# Altium footprint library LTC7818.PcbLib: 9 footprints
Each footprint in its own frame and in the unit in brackets; x right, y up, seen from the top. Pads: shape width x height; smd on the part's side, far side on the other; paste and mask are expansions set on the pad; w line width, h text height; cw(c..) or ccw(c..) is an arc to the next point about the centre after c.
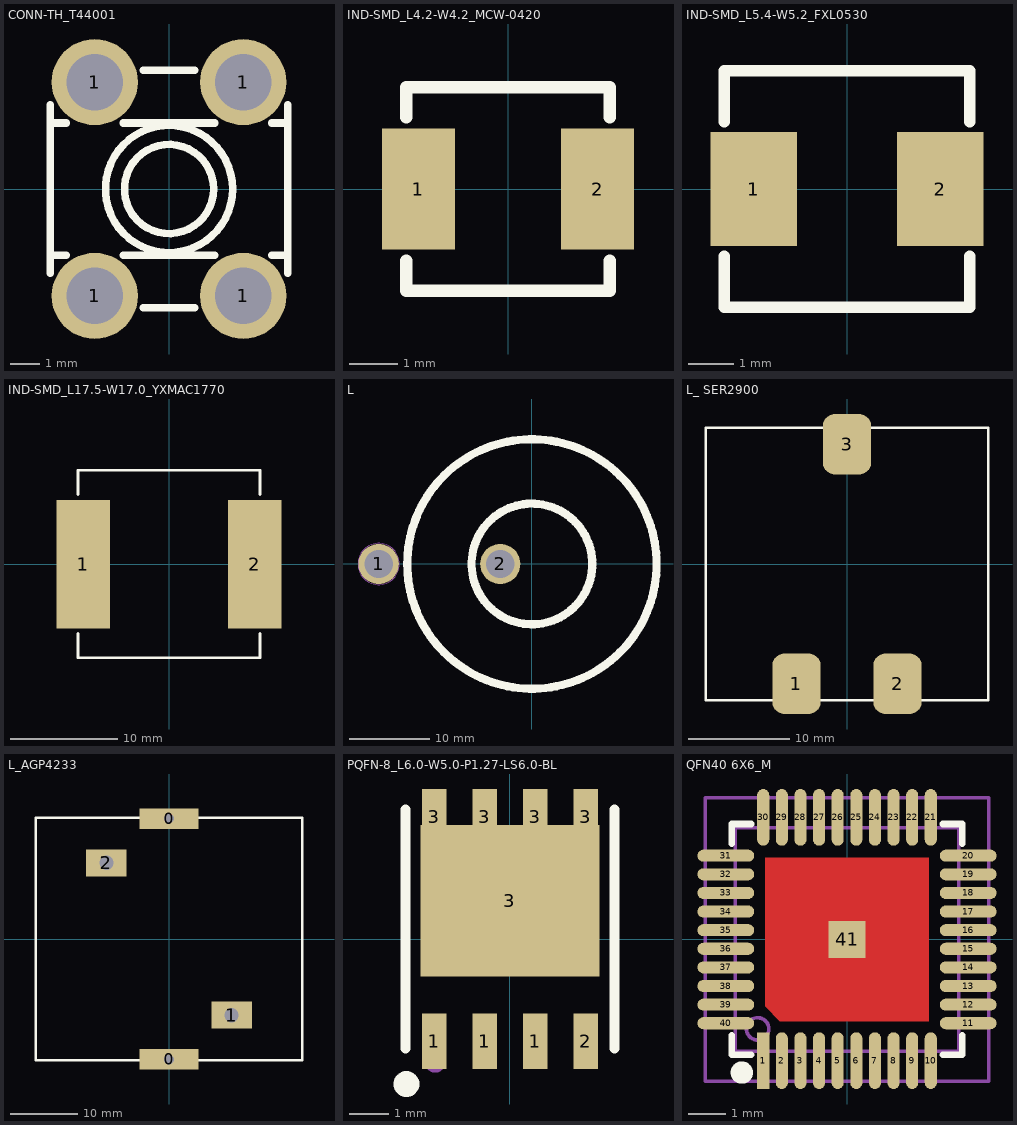
[diagram p0: the footprints below, top view; thin cyan lines are the x and y axes]

## CONN-TH_T44001 [mm]
pads (4):
  round 2.9 hole 1.9: 1(-2.5,-3.6) 1(-2.5,3.6) 1(2.5,-3.6) 1(2.5,3.6)
Top Overlay:
  circle w0.254: c0,0 r2.14
  circle w0.254: c0,0 r1.5
  lines w0.254: -4,-2.844 -4,2.844 ; -4,-2.223 -3.463,-2.223 ; -4,2.222 -3.461,2.222 ; -1.539,2.222 1.539,2.222 ; -1.537,-2.223 1.537,-2.223 ; -0.867,-4 0.867,-4 ; -0.867,4 0.867,4 ; 3.461,2.222 4,2.222 ; 3.463,-2.223 4,-2.223 ; 4,-2.844 4,2.844

## IND-SMD_L4.2-W4.2_MCW-0420 [mm]
pads (2):
  rect 1.5x2.5 smd: 1(-1.85,0) 2(1.85,0)
Top Overlay:
  lines w0.254: -2.1,-1.481 -2.1,-2.1 2.1,-2.1 2.1,-1.481 ; -2.1,1.481 -2.1,2.1 2.1,2.1 2.1,1.481
3D body "User Library-0420CDMCB_DS.STEP": height 1.91, standoff -0.01, extent -2.26,-2.08 2.24,2.02

## IND-SMD_L5.4-W5.2_FXL0530 [mm]
pads (2):
  rect 1.9x2.5 smd: 1(-2.05,0) 2(2.05,0)
Top Overlay:
  lines w0.254: -2.7,-1.481 -2.7,-2.6 2.7,-2.6 2.7,-1.481 ; -2.7,1.481 -2.7,2.6 2.7,2.6 2.7,1.481
3D body "User Library-ASPI-0530HI.STEP": height 2.95, standoff -0.05, extent -2.8,-2.566 2.8,2.634

## IND-SMD_L17.5-W17.0_YXMAC1770 [mm]
pads (2):
  rect 5x12 smd: 1(-8,-0.025) 2(8,-0.025)
Top Overlay:
  lines w0.254: -8.5,-6.485 -8.5,-8.754 8.5,-8.754 8.5,-6.485 ; -8.5,6.485 -8.5,8.754 8.5,8.754 8.5,6.485
3D body "User Library-CAPM172172X70N.STEP": height 7, standoff 0, extent -8.87,-8.575 8.87,8.575

## L [mm]
pads (2):
  round 5 hole 3.5: 1(-19.048,0) 2(-3.937,0)
Top Overlay:
  circle w1.016: c0,0 r7.5
  circle w1.016: c0,0 r15.5
Mechanical 13:
  circle w0.013: c-0.064,-0.064 r15.502
  circle w0.013: c-0.001,-0.002 r15.669
  circle w0.013: c-19.048,0 r2.57

## L_ SER2900 [mm]
pads (3):
  rrect50% 4.8x6 smd: 1(-5,-11.85) 2(5,-11.85) 3(0,11.85)
Top Overlay:
  lines w0.254: -14,-13.5 14,-13.5 14,13.5 -14,13.5 -14,-13.5
3D body "Coilcraft-SER2918H.step": height 17.82, standoff 0.04, extent -13.951,-13.488 13.951,13.553

## L_AGP4233 [mm] "扁平电感"
pads (4):
  rect 8.75x3 hole 1.5 square: 0(0,-17.78) 0(0,17.78)
  rect 6x4 hole 2.1 square: 1(9.25,-11.25) 2(-9.25,11.25)
Top Overlay:
  lines w0.381: -19.65,-17.9 19.65,-17.9 19.65,17.9 -19.65,17.9 -19.65,-17.9
3D body "Coilcraft-AGP4233_6_8-150uH.step": height 28, standoff -5.3, extent -20.086,-18.4 20.214,18.4

## PQFN-8_L6.0-W5.0-P1.27-LS6.0-BL [mil]
pads (9):
  rect 24x55 smd: 1(-75,-101.03) 1(-25,-101.03) 1(25,-101.03) 2(75,-101.03) 3(-75,120.97) 3(-25,120.97) 3(25,120.97) 3(75,120.97)
  rect 177.16x150 smd: 3(0,37.98)
Top Overlay:
  lines w10: -103.5,-108.12 -103.5,128.07 ; 103.5,-108.12 103.5,128.07
  lines w15.7: -97.5,-143.63 cw(c-102.4,-143.57) -97.5,-143.52
Top Paste:
  region: -88.98,-37.27 -88.98,100.53 88.19,100.53 88.19,-37.27
  region: -87.01,-128.37 -87.01,-73.65 -62.99,-73.65 -62.99,-128.37
  region: -37.01,-128.37 -37.01,-73.65 -12.99,-73.65 -12.99,-128.37
  region: 12.99,-128.37 12.99,-73.65 37.01,-73.65 37.01,-128.37
  region: 62.99,-128.37 62.99,-73.65 87.01,-73.65 87.01,-128.37
  region: -87.01,120.92 -87.01,148.47 -62.99,148.47 -62.99,120.92
  region: -37.01,120.92 -37.01,148.47 -12.99,148.47 -12.99,120.92
  region: 12.99,120.92 12.99,148.47 37.01,148.47 37.01,120.92
  region: 62.99,120.92 62.99,148.47 87.01,148.47 87.01,120.92
Mechanical 15:
  circle w10: c-74.02,-122.3 r5
3D body "User Library-FDMS8018.STEP": height 43.31, standoff 0, extent -102.36,-113.02 102.37,133.04

## QFN40 6X6_M [mm] "40脚，长x宽x高：6x6x1mm，脚距：0.5mm"
height 12.3
pads (41):
  rect 0.325x1.524 smd mask+0.051: 1(-2.25,-3.254)
  oval 0.325x1.524 smd mask+0.051: 2(-1.75,-3.254) 3(-1.25,-3.254) 4(-0.75,-3.254) 5(-0.25,-3.254) 6(0.25,-3.254) 7(0.75,-3.254) 8(1.25,-3.254) 9(1.75,-3.254) 10(2.25,-3.254) 21(2.25,3.279) 22(1.75,3.279) 23(1.25,3.279) 24(0.75,3.279) 25(0.25,3.279) 26(-0.25,3.279) 27(-0.75,3.279) 28(-1.25,3.279) 29(-1.75,3.279) 30(-2.25,3.279)
  oval 1.524x0.325 smd mask+0.051: 11(3.254,-2.25) 12(3.254,-1.75) 13(3.254,-1.25) 14(3.254,-0.75) 15(3.254,-0.25) 16(3.254,0.25) 17(3.254,0.75) 18(3.254,1.25) 19(3.254,1.75) 20(3.254,2.25) 31(-3.254,2.25) 32(-3.254,1.75) 33(-3.254,1.25) 34(-3.254,0.75) 35(-3.254,0.25) 36(-3.254,-0.25) 37(-3.254,-0.75) 38(-3.254,-1.25) 39(-3.254,-1.75) 40(-3.254,-2.25)
  rect 1x1 smd mask+0.051: 41(0,0)
Top Layer:
  region: -2.2,2.2 2.2,2.2 2.2,-2.2 -1.8,-2.2 -2.2,-1.8
Top Overlay:
  circle w0.3: c-2.825,-3.575 r0.15
  lines w0.178: -3.1,-2.575 -3.1,-3.1 -2.575,-3.1 ; -3.1,2.575 -3.1,3.1 -2.575,3.1 ; 2.575,-3.1 3.1,-3.1 3.1,-2.575 ; 2.575,3.1 3.1,3.1 3.1,2.575
Mechanical 13:
  circle w0.1: c-2.4,-2.4 r0.3
  lines w0.1: -3,-3 -3,3 3,3 3,-3 -3,-3
Mechanical 15:
  circle w0.05: c0,0 r0.35
  lines w0.05: -0.5,0 0.5,0 ; 0,-0.5 0,0.5
  lines w0.1: -3.81,-3.81 3.81,-3.81 3.81,3.81 -3.81,3.81 -3.81,-3.81
3D body "QFN40-6x6.STEP": height 0.95, standoff -0.01, extent -3.01,-3.01 3.01,3.01